# Altium schematic symbol library Schlib1.SchLib: 1 symbol
Pins are listed as number, name and electrical type; pins without a type are passive.

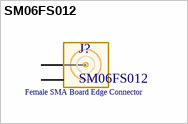
[diagram p0: symbol SM06FS012]

## SM06FS012
designator J?
Board Edge SMA 26.5 GHz
footprint SM06FS012
pins: 1, 2
text: Female SMA Board Edge Connector